# EAGLE library part RESISTOR_ARRY (library Fugu_RCL)
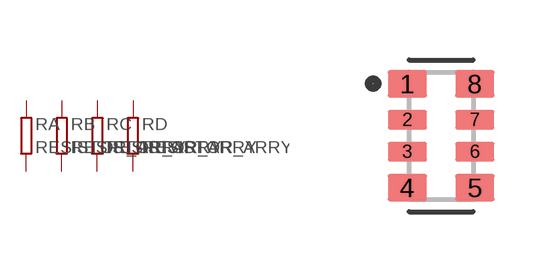
[diagram p0: symbol with the pads of RESCAXS80P320X160X60-8N; footprint RESCAXS80P320X160X60-8N]

Designator prefix R; gates A=RESISTOR B=RESISTOR C=RESISTOR D=RESISTOR

## RESISTOR_ARRY1206  [RESCAXS80P320X160X60-8N]
1  A:1  pas
2  B:1  pas
3  C:1  pas
4  D:1  pas
5  D:2  pas
6  C:2  pas
7  B:2  pas
8  A:2  pas

## Footprint RESCAXS80P320X160X60-8N (pad centres in mm)
smd 0.98 x 0.68: 1 -0.845,1.3; 4 -0.845,-1.3; 5 0.845,-1.3; 8 0.845,1.3
smd 0.98 x 0.48: 2 -0.845,0.4; 3 -0.845,-0.4; 6 0.845,-0.4; 7 0.845,0.4